# Altium footprint library WE-IBTI.PcbLib: 39 footprints (part 2 of 3)
Each footprint in its own frame and in the unit in brackets; x right, y up, seen from the top. Pads: shape width x height; smd on the part's side, far side on the other; paste and mask are expansions set on the pad; w line width, h text height; cw(c..) or ccw(c..) is an arc to the next point about the centre after c.
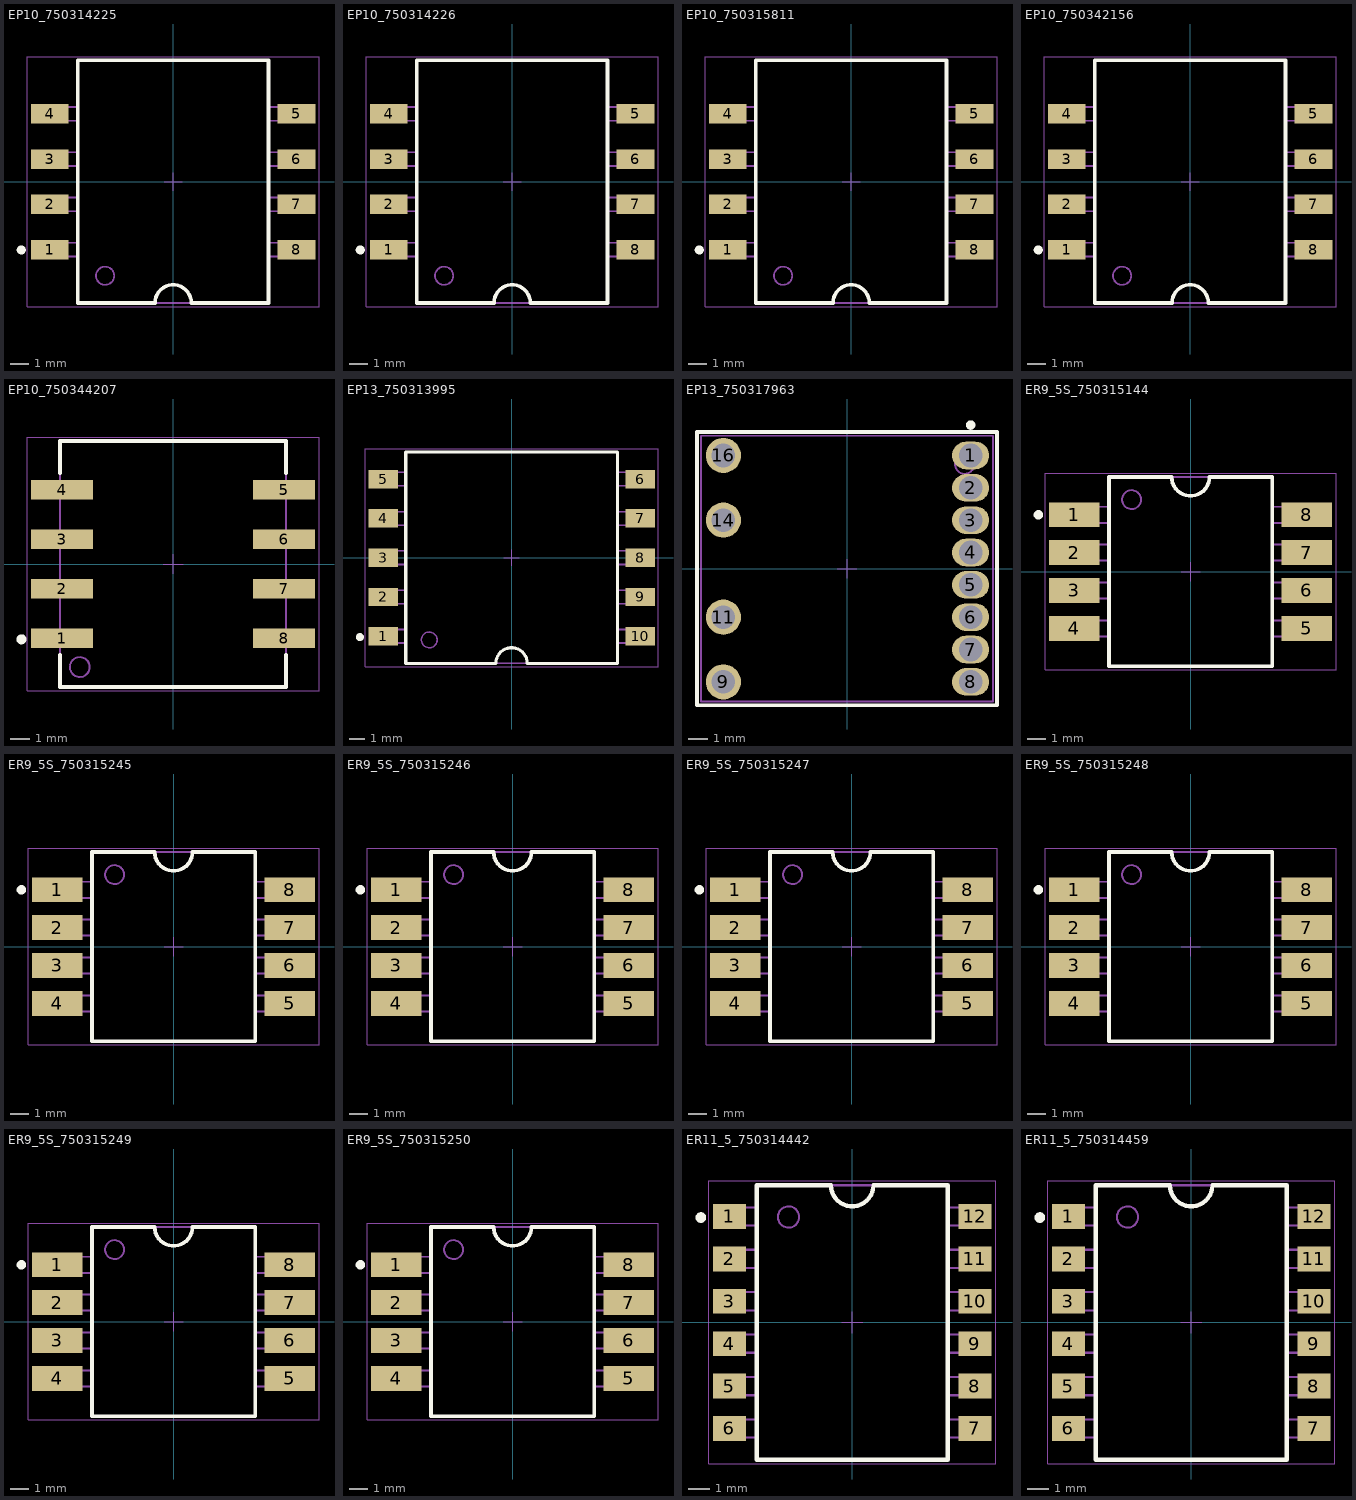
[diagram p1: the footprints below, top view; thin cyan lines are the x and y axes]

## EP10_750314225 [mm] "Isolated Buck Transformer, EP10, SMT"
height 11.43
pads (8):
  rect 2.08x1.07 smd: 1(-6.78,-3.735) 2(-6.78,-1.245) 3(-6.78,1.245) 4(-6.78,3.735) 5(6.78,3.735) 6(6.78,1.245) 7(6.78,-1.245) 8(6.78,-3.735)
Top Overlay:
  circle w0.25: c-8.35,-3.75 r0.125
  lines w0.2: -5.24,-6.67 -1,-6.67 cw(c0,-6.67) 1,-6.67 5.24,-6.67 5.24,6.67 -5.24,6.67 -5.24,-6.67
Top Component Outline:
  circle w0.1: c-3.74,-5.17 r0.5
  lines w0.1: -5.24,-4.115 -7.62,-4.115 -7.62,-3.355 -5.24,-3.355 ; -5.24,-1.625 -7.62,-1.625 -7.62,-0.865 -5.24,-0.865 ; -5.24,0.865 -7.62,0.865 -7.62,1.625 -5.24,1.625 ; -5.24,3.355 -7.62,3.355 -7.62,4.115 -5.24,4.115 ; 5.24,-4.115 7.62,-4.115 7.62,-3.355 5.24,-3.355 ; 5.24,-1.625 7.62,-1.625 7.62,-0.865 5.24,-0.865 ; 5.24,0.865 7.62,0.865 7.62,1.625 5.24,1.625 ; 5.24,3.355 7.62,3.355 7.62,4.115 5.24,4.115 ; -5.24,-6.67 -5.24,6.67 5.24,6.67 5.24,-6.67 -5.24,-6.67
Top Courtyard:
  lines w0.05: -8.02,-6.87 8.02,-6.87 8.02,6.87 -8.02,6.87 -8.02,-6.87
Top Component Center:
  lines w0.05: -0.5,0 0.5,0 ; 0,-0.5 0,0.5
Top Designator:
  text ".Designator" at -7.498,-0.5 h1.5
3D body "070-6052 (rev1).STEP": height 10.8, standoff 0.02, extent -7.31,-6.065 7.31,6.065

## EP10_750314226 [mm] "Isolated Buck Transformer, EP10, SMT"
height 11.43
pads (8):
  rect 2.08x1.07 smd: 1(-6.78,-3.735) 2(-6.78,-1.245) 3(-6.78,1.245) 4(-6.78,3.735) 5(6.78,3.735) 6(6.78,1.245) 7(6.78,-1.245) 8(6.78,-3.735)
Top Overlay:
  circle w0.25: c-8.35,-3.75 r0.125
  lines w0.2: -5.24,-6.67 -1,-6.67 cw(c0,-6.67) 1,-6.67 5.24,-6.67 5.24,6.67 -5.24,6.67 -5.24,-6.67
Top Component Outline:
  circle w0.1: c-3.74,-5.17 r0.5
  lines w0.1: -5.24,-4.115 -7.62,-4.115 -7.62,-3.355 -5.24,-3.355 ; -5.24,-1.625 -7.62,-1.625 -7.62,-0.865 -5.24,-0.865 ; -5.24,0.865 -7.62,0.865 -7.62,1.625 -5.24,1.625 ; -5.24,3.355 -7.62,3.355 -7.62,4.115 -5.24,4.115 ; 5.24,-4.115 7.62,-4.115 7.62,-3.355 5.24,-3.355 ; 5.24,-1.625 7.62,-1.625 7.62,-0.865 5.24,-0.865 ; 5.24,0.865 7.62,0.865 7.62,1.625 5.24,1.625 ; 5.24,3.355 7.62,3.355 7.62,4.115 5.24,4.115 ; -5.24,-6.67 -5.24,6.67 5.24,6.67 5.24,-6.67 -5.24,-6.67
Top Courtyard:
  lines w0.05: -8.02,-6.87 8.02,-6.87 8.02,6.87 -8.02,6.87 -8.02,-6.87
Top Component Center:
  lines w0.05: -0.5,0 0.5,0 ; 0,-0.5 0,0.5
Top Designator:
  text ".Designator" at -7.498,-0.5 h1.5
3D body "070-6052 (rev1) (1).STEP": height 10.8, standoff 0.02, extent -7.31,-6.065 7.31,6.065

## EP10_750315811 [mm] "Isolated Buck Transformer, EP10, SMT"
height 11.43
pads (8):
  rect 2.08x1.07 smd: 1(-6.78,-3.735) 2(-6.78,-1.245) 3(-6.78,1.245) 4(-6.78,3.735) 5(6.78,3.735) 6(6.78,1.245) 7(6.78,-1.245) 8(6.78,-3.735)
Top Overlay:
  circle w0.25: c-8.35,-3.75 r0.125
  lines w0.2: -5.24,-6.67 -5.24,6.67 5.24,6.67 5.24,-6.67 1,-6.67 ccw(c0,-6.67) -1,-6.67 -5.24,-6.67
Top Component Outline:
  circle w0.1: c-3.74,-5.17 r0.5
  lines w0.1: -5.24,-4.115 -7.62,-4.115 -7.62,-3.355 -5.24,-3.355 ; -5.24,-1.625 -7.62,-1.625 -7.62,-0.865 -5.24,-0.865 ; -5.24,0.865 -7.62,0.865 -7.62,1.625 -5.24,1.625 ; -5.24,3.355 -7.62,3.355 -7.62,4.115 -5.24,4.115 ; 5.24,-4.115 7.62,-4.115 7.62,-3.355 5.24,-3.355 ; 5.24,-1.625 7.62,-1.625 7.62,-0.865 5.24,-0.865 ; 5.24,0.865 7.62,0.865 7.62,1.625 5.24,1.625 ; 5.24,3.355 7.62,3.355 7.62,4.115 5.24,4.115 ; -5.24,-6.67 5.24,-6.67 5.24,6.67 -5.24,6.67 -5.24,-6.67
Top Courtyard:
  lines w0.05: -8.02,-6.87 -8.02,6.87 8.02,6.87 8.02,-6.87 -8.02,-6.87
Top Component Center:
  lines w0.05: -0.5,0 0.5,0 ; 0,-0.5 0,0.5
Top Designator:
  text ".Designator" at -7.498,-0.5 h1.5
3D body "070-6052 (rev1) (2).STEP": height 10.8, standoff 0.02, extent -7.31,-6.065 7.31,6.065

## EP10_750342156 [mm] "Isolated Buck Transformer, EP10, SMT"
height 11.43
pads (8):
  rect 2.08x1.07 smd: 1(-6.78,-3.735) 2(-6.78,-1.245) 3(-6.78,1.245) 4(-6.78,3.735) 5(6.78,3.735) 6(6.78,1.245) 7(6.78,-1.245) 8(6.78,-3.735)
Top Overlay:
  circle w0.25: c-8.35,-3.75 r0.125
  lines w0.2: -5.24,-6.67 -1,-6.67 cw(c0,-6.67) 1,-6.67 5.24,-6.67 5.24,6.67 -5.24,6.67 -5.24,-6.67
Top Component Outline:
  circle w0.1: c-3.74,-5.17 r0.5
  lines w0.1: -5.24,-4.115 -7.62,-4.115 -7.62,-3.355 -5.24,-3.355 ; -5.24,-1.625 -7.62,-1.625 -7.62,-0.865 -5.24,-0.865 ; -5.24,0.865 -7.62,0.865 -7.62,1.625 -5.24,1.625 ; -5.24,3.355 -7.62,3.355 -7.62,4.115 -5.24,4.115 ; 5.24,-4.115 7.62,-4.115 7.62,-3.355 5.24,-3.355 ; 5.24,-1.625 7.62,-1.625 7.62,-0.865 5.24,-0.865 ; 5.24,0.865 7.62,0.865 7.62,1.625 5.24,1.625 ; 5.24,3.355 7.62,3.355 7.62,4.115 5.24,4.115 ; -5.24,-6.67 -5.24,6.67 5.24,6.67 5.24,-6.67 -5.24,-6.67
Top Courtyard:
  lines w0.05: -8.02,-6.87 8.02,-6.87 8.02,6.87 -8.02,6.87 -8.02,-6.87
Top Component Center:
  lines w0.05: -0.5,0 0.5,0 ; 0,-0.5 0,0.5
Top Designator:
  text ".Designator" at -7.498,-0.5 h1.5
3D body "070-6052 (rev1).STEP": height 10.8, standoff 0.02, extent -7.31,-6.065 7.31,6.065

## EP10_750344207 [mm] "Isolated Buck  Transformer, body 13.80 x 12.40 mm"
height 13.6
pads (8):
  rect 3.12x1 smd: 1(-5.6,-3.75) 2(-5.6,-1.25) 3(-5.6,1.25) 4(-5.6,3.75) 5(5.6,3.75) 6(5.6,1.25) 7(5.6,-1.25) 8(5.6,-3.75)
Top Overlay:
  circle w0.25: c-7.65,-3.8 r0.125
  lines w0.2: -5.707,-4.6 -5.707,-6.2 5.707,-6.2 5.707,-4.6 ; -5.707,4.6 -5.707,6.2 5.707,6.2 5.707,4.6
Top Component Outline:
  circle w0.1: c-4.707,-5.2 r0.5
  lines w0.1: -5.707,-4 -6.598,-4 -6.598,-3.5 -5.707,-3.5 ; -5.707,-1.5 -6.598,-1.5 -6.598,-1 -5.707,-1 ; -5.707,1 -6.598,1 -6.598,1.5 -5.707,1.5 ; -5.707,3.5 -6.598,3.5 -6.598,4 -5.707,4 ; 5.707,-4 6.598,-4 6.598,-3.5 5.707,-3.5 ; 5.707,-1.5 6.598,-1.5 6.598,-1 5.707,-1 ; 5.707,1 6.598,1 6.598,1.5 5.707,1.5 ; 5.707,3.5 6.598,3.5 6.598,4 5.707,4 ; -5.707,-6.2 5.707,-6.2 5.707,6.2 -5.707,6.2 -5.707,-6.2
Top Courtyard:
  lines w0.05: -7.36,-6.4 -7.36,6.4 7.36,6.4 7.36,-6.4 -7.36,-6.4
Top Component Center:
  lines w0.05: -0.5,0 0.5,0 ; 0,-0.5 0,0.5
Top Designator:
  text ".Designator" at -7.498,-0.5 h1.5
3D body "Download_STP_070-7052 (rev1).STEP": height 12.51, standoff 0, extent -6.598,-6.065 6.597,6.065

## EP13_750313995 [mm] "Isolated Buck Transformer, EP13, SMT"
height 12.7
pads (10):
  rect 1.88x1.17 smd: 1(-8.18,-5) 2(-8.18,-2.5) 3(-8.18,0) 4(-8.18,2.5) 5(-8.18,5) 6(8.18,5) 7(8.18,2.5) 8(8.18,0) 9(8.18,-2.5) 10(8.18,-5)
Top Overlay:
  circle w0.25: c-9.65,-5.05 r0.125
  lines w0.2: -6.74,-6.73 -1,-6.73 cw(c0,-6.73) 1,-6.73 6.74,-6.73 6.74,6.73 -6.74,6.73 -6.74,-6.73
Top Component Outline:
  circle w0.1: c-5.24,-5.23 r0.5
  lines w0.1: -6.74,-5.43 -8.875,-5.43 -8.875,-4.57 -6.74,-4.57 ; -6.74,-2.93 -8.875,-2.93 -8.875,-2.07 -6.74,-2.07 ; -6.74,-0.43 -8.875,-0.43 -8.875,0.43 -6.74,0.43 ; -6.74,2.07 -8.875,2.07 -8.875,2.93 -6.74,2.93 ; -6.74,4.57 -8.875,4.57 -8.875,5.43 -6.74,5.43 ; 6.74,-5.43 8.875,-5.43 8.875,-4.57 6.74,-4.57 ; 6.74,-2.93 8.875,-2.93 8.875,-2.07 6.74,-2.07 ; 6.74,-0.43 8.875,-0.43 8.875,0.43 6.74,0.43 ; 6.74,2.07 8.875,2.07 8.875,2.93 6.74,2.93 ; 6.74,4.57 8.875,4.57 8.875,5.43 6.74,5.43 ; -6.74,-6.73 6.74,-6.73 6.74,6.73 -6.74,6.73 -6.74,-6.73
Top Courtyard:
  lines w0.05: -9.32,-6.93 -9.32,6.93 9.32,6.93 9.32,-6.93 -9.32,-6.93
Top Component Center:
  lines w0.05: -0.5,0 0.5,0 ; 0,-0.5 0,0.5
Top Designator:
  text ".Designator" at -7.498,-0.5 h1.5
3D body "070-5465 (rev1) (1).STEP": height 11.98, standoff 0.02, extent -8.58,-6.55 8.58,6.55

## EP13_750317963 [mm] "Isolated Buck  Transformer, THT, body 15.37 x 13.97 mm"
height 12.7
pads (12):
  oval 1.95x1.45 hole 1.25: 1(6.5,5.95) 2(6.5,4.25) 3(6.5,2.55) 4(6.5,0.85) 5(6.5,-0.85) 6(6.5,-2.55) 7(6.5,-4.25) 8(6.5,-5.95)
  round 1.85 hole 1.25: 9(-6.5,-5.95) 11(-6.5,-2.55) 14(-6.5,2.55) 16(-6.5,5.95)
Top Overlay:
  circle w0.25: c6.5,7.55 r0.125
  lines w0.2: -7.885,-7.185 -7.885,7.185 7.885,7.185 7.885,-7.185 -7.885,-7.185
Top Component Outline:
  circle w0.1: c6.185,5.485 r0.5
  lines w0.1: -7.685,-6.985 7.685,-6.985 7.685,6.985 -7.685,6.985 -7.685,-6.985
Top Courtyard:
  lines w0.05: -7.885,-7.185 -7.885,7.185 7.885,7.185 7.885,-7.185 -7.885,-7.185
Top Component Center:
  lines w0.05: -0.5,0 0.5,0 ; 0,-0.5 0,0.5
Top Designator:
  text ".Designator" at -7.498,-0.5 h1.5
3D body "Download_STP_070-4862 (rev1) (1).STEP": height 12.72, standoff -2.78, extent -7.685,-6.86 7.685,7.11

## ER9_5S_750315144 [mm] "Isolated Buck Transformer, ER9.5S, SMT"
height 5
pads (8):
  rect 2.67x1.31 smd: 1(-6.15,3) 2(-6.15,1) 3(-6.15,-1) 4(-6.15,-3) 5(6.15,-3) 6(6.15,-1) 7(6.15,1) 8(6.15,3)
Top Overlay:
  circle w0.25: c-8.04,3 r0.125
  lines w0.2: -4.315,-5 4.315,-5 4.315,5 1,5 cw(c0,5) -1,5 -4.315,5 -4.315,-5
Top Component Outline:
  circle w0.1: c-3.115,3.8 r0.5
  lines w0.1: -4.315,-3.425 -7,-3.425 -7,-2.575 -4.315,-2.575 ; -4.315,-1.425 -7,-1.425 -7,-0.575 -4.315,-0.575 ; -4.315,0.575 -7,0.575 -7,1.425 -4.315,1.425 ; -4.315,2.575 -7,2.575 -7,3.425 -4.315,3.425 ; 4.315,-3.425 7,-3.425 7,-2.575 4.315,-2.575 ; 4.315,-1.425 7,-1.425 7,-0.575 4.315,-0.575 ; 4.315,0.575 7,0.575 7,1.425 4.315,1.425 ; 4.315,2.575 7,2.575 7,3.425 4.315,3.425 ; -4.315,-5 -4.315,5 4.315,5 4.315,-5 -4.315,-5
Top Courtyard:
  lines w0.05: -7.685,-5.2 -7.685,5.2 7.685,5.2 7.685,-5.2 -7.685,-5.2
Top Component Center:
  lines w0.05: -0.5,0 0.5,0 ; 0,-0.5 0,0.5
Top Designator:
  text ".Designator" at -7.498,-0.5 h1.5
3D body "STEP-070-6310.step": height 4.85, standoff 0.01, extent -6.58,-4.826 6.58,4.674

## ER9_5S_750315245 [mm] "Isolated Buck Transformer, ER9.5S, SMT"
height 5
pads (8):
  rect 2.67x1.31 smd: 1(-6.15,3) 2(-6.15,1) 3(-6.15,-1) 4(-6.15,-3) 5(6.15,-3) 6(6.15,-1) 7(6.15,1) 8(6.15,3)
Top Overlay:
  circle w0.25: c-8.04,3 r0.125
  lines w0.2: -4.315,-5 -4.315,5 -1,5 ccw(c0,5) 1,5 4.315,5 4.315,-5 -4.315,-5
Top Component Outline:
  circle w0.1: c-3.115,3.8 r0.5
  lines w0.1: -4.315,-3.425 -7,-3.425 -7,-2.575 -4.315,-2.575 ; -4.315,-1.425 -7,-1.425 -7,-0.575 -4.315,-0.575 ; -4.315,0.575 -7,0.575 -7,1.425 -4.315,1.425 ; -4.315,2.575 -7,2.575 -7,3.425 -4.315,3.425 ; 4.315,-3.425 7,-3.425 7,-2.575 4.315,-2.575 ; 4.315,-1.425 7,-1.425 7,-0.575 4.315,-0.575 ; 4.315,0.575 7,0.575 7,1.425 4.315,1.425 ; 4.315,2.575 7,2.575 7,3.425 4.315,3.425 ; -4.315,-5 4.315,-5 4.315,5 -4.315,5 -4.315,-5
Top Courtyard:
  lines w0.05: -7.685,-5.2 7.685,-5.2 7.685,5.2 -7.685,5.2 -7.685,-5.2
Top Component Center:
  lines w0.05: -0.5,0 0.5,0 ; 0,-0.5 0,0.5
Top Designator:
  text ".Designator" at -7.498,-0.5 h1.5
3D body "STEP-070-6310.step": height 4.85, standoff 0.01, extent -6.58,-4.826 6.58,4.674

## ER9_5S_750315246 [mm] "Isolated Buck Transformer, ER9.5S, SMT"
height 5
pads (8):
  rect 2.67x1.31 smd: 1(-6.15,3) 2(-6.15,1) 3(-6.15,-1) 4(-6.15,-3) 5(6.15,-3) 6(6.15,-1) 7(6.15,1) 8(6.15,3)
Top Overlay:
  circle w0.25: c-8.04,3 r0.125
  lines w0.2: -4.315,-5 4.315,-5 4.315,5 1,5 cw(c0,5) -1,5 -4.315,5 -4.315,-5
Top Component Outline:
  circle w0.1: c-3.115,3.8 r0.5
  lines w0.1: -4.315,-3.425 -7,-3.425 -7,-2.575 -4.315,-2.575 ; -4.315,-1.425 -7,-1.425 -7,-0.575 -4.315,-0.575 ; -4.315,0.575 -7,0.575 -7,1.425 -4.315,1.425 ; -4.315,2.575 -7,2.575 -7,3.425 -4.315,3.425 ; 4.315,-3.425 7,-3.425 7,-2.575 4.315,-2.575 ; 4.315,-1.425 7,-1.425 7,-0.575 4.315,-0.575 ; 4.315,0.575 7,0.575 7,1.425 4.315,1.425 ; 4.315,2.575 7,2.575 7,3.425 4.315,3.425 ; -4.315,-5 -4.315,5 4.315,5 4.315,-5 -4.315,-5
Top Courtyard:
  lines w0.05: -7.685,-5.2 -7.685,5.2 7.685,5.2 7.685,-5.2 -7.685,-5.2
Top Component Center:
  lines w0.05: -0.5,0 0.5,0 ; 0,-0.5 0,0.5
Top Designator:
  text ".Designator" at -7.498,-0.5 h1.5
3D body "STEP-070-6310.step": height 4.85, standoff 0.01, extent -6.58,-4.826 6.58,4.674

## ER9_5S_750315247 [mm] "Isolated Buck Transformer, ER9.5S, SMT"
height 5
pads (8):
  rect 2.67x1.31 smd: 1(-6.15,3) 2(-6.15,1) 3(-6.15,-1) 4(-6.15,-3) 5(6.15,-3) 6(6.15,-1) 7(6.15,1) 8(6.15,3)
Top Overlay:
  circle w0.25: c-8.04,3 r0.125
  lines w0.2: -4.315,-5 -4.315,5 -1,5 ccw(c0,5) 1,5 4.315,5 4.315,-5 -4.315,-5
Top Component Outline:
  circle w0.1: c-3.115,3.8 r0.5
  lines w0.1: -4.315,-3.425 -7,-3.425 -7,-2.575 -4.315,-2.575 ; -4.315,-1.425 -7,-1.425 -7,-0.575 -4.315,-0.575 ; -4.315,0.575 -7,0.575 -7,1.425 -4.315,1.425 ; -4.315,2.575 -7,2.575 -7,3.425 -4.315,3.425 ; 4.315,-3.425 7,-3.425 7,-2.575 4.315,-2.575 ; 4.315,-1.425 7,-1.425 7,-0.575 4.315,-0.575 ; 4.315,0.575 7,0.575 7,1.425 4.315,1.425 ; 4.315,2.575 7,2.575 7,3.425 4.315,3.425 ; -4.315,-5 4.315,-5 4.315,5 -4.315,5 -4.315,-5
Top Courtyard:
  lines w0.05: -7.685,-5.2 7.685,-5.2 7.685,5.2 -7.685,5.2 -7.685,-5.2
Top Component Center:
  lines w0.05: -0.5,0 0.5,0 ; 0,-0.5 0,0.5
Top Designator:
  text ".Designator" at -7.498,-0.5 h1.5
3D body "STEP-070-6310.step": height 4.85, standoff 0.01, extent -6.58,-4.826 6.58,4.674

## ER9_5S_750315248 [mm] "Isolated Buck Transformer, ER9.5S, SMT"
height 5
pads (8):
  rect 2.67x1.31 smd: 1(-6.15,3) 2(-6.15,1) 3(-6.15,-1) 4(-6.15,-3) 5(6.15,-3) 6(6.15,-1) 7(6.15,1) 8(6.15,3)
Top Overlay:
  circle w0.25: c-8.04,3 r0.125
  lines w0.2: -4.315,-5 -4.315,5 -1,5 ccw(c0,5) 1,5 4.315,5 4.315,-5 -4.315,-5
Top Component Outline:
  circle w0.1: c-3.115,3.8 r0.5
  lines w0.1: -4.315,-3.425 -7,-3.425 -7,-2.575 -4.315,-2.575 ; -4.315,-1.425 -7,-1.425 -7,-0.575 -4.315,-0.575 ; -4.315,0.575 -7,0.575 -7,1.425 -4.315,1.425 ; -4.315,2.575 -7,2.575 -7,3.425 -4.315,3.425 ; 4.315,-3.425 7,-3.425 7,-2.575 4.315,-2.575 ; 4.315,-1.425 7,-1.425 7,-0.575 4.315,-0.575 ; 4.315,0.575 7,0.575 7,1.425 4.315,1.425 ; 4.315,2.575 7,2.575 7,3.425 4.315,3.425 ; -4.315,-5 4.315,-5 4.315,5 -4.315,5 -4.315,-5
Top Courtyard:
  lines w0.05: -7.685,-5.2 7.685,-5.2 7.685,5.2 -7.685,5.2 -7.685,-5.2
Top Component Center:
  lines w0.05: -0.5,0 0.5,0 ; 0,-0.5 0,0.5
Top Designator:
  text ".Designator" at -7.498,-0.5 h1.5
3D body "STEP-070-6310.step": height 4.85, standoff 0.01, extent -6.58,-4.826 6.58,4.674

## ER9_5S_750315249 [mm] "Isolated Buck Transformer, ER9.5S, SMT"
height 5
pads (8):
  rect 2.67x1.31 smd: 1(-6.15,3) 2(-6.15,1) 3(-6.15,-1) 4(-6.15,-3) 5(6.15,-3) 6(6.15,-1) 7(6.15,1) 8(6.15,3)
Top Overlay:
  circle w0.25: c-8.04,3 r0.125
  lines w0.2: -4.315,-5 4.315,-5 4.315,5 1,5 cw(c0,5) -1,5 -4.315,5 -4.315,-5
Top Component Outline:
  circle w0.1: c-3.115,3.8 r0.5
  lines w0.1: -4.315,-3.425 -7,-3.425 -7,-2.575 -4.315,-2.575 ; -4.315,-1.425 -7,-1.425 -7,-0.575 -4.315,-0.575 ; -4.315,0.575 -7,0.575 -7,1.425 -4.315,1.425 ; -4.315,2.575 -7,2.575 -7,3.425 -4.315,3.425 ; 4.315,-3.425 7,-3.425 7,-2.575 4.315,-2.575 ; 4.315,-1.425 7,-1.425 7,-0.575 4.315,-0.575 ; 4.315,0.575 7,0.575 7,1.425 4.315,1.425 ; 4.315,2.575 7,2.575 7,3.425 4.315,3.425 ; -4.315,-5 -4.315,5 4.315,5 4.315,-5 -4.315,-5
Top Courtyard:
  lines w0.05: -7.685,-5.2 -7.685,5.2 7.685,5.2 7.685,-5.2 -7.685,-5.2
Top Component Center:
  lines w0.05: -0.5,0 0.5,0 ; 0,-0.5 0,0.5
Top Designator:
  text ".Designator" at -7.498,-0.5 h1.5
3D body "STEP-070-6310.step": height 4.85, standoff 0.01, extent -6.58,-4.826 6.58,4.674

## ER9_5S_750315250 [mm] "Isolated Buck Transformer, ER9.5S, SMT"
height 5
pads (8):
  rect 2.67x1.31 smd: 1(-6.15,3) 2(-6.15,1) 3(-6.15,-1) 4(-6.15,-3) 5(6.15,-3) 6(6.15,-1) 7(6.15,1) 8(6.15,3)
Top Overlay:
  circle w0.25: c-8.04,3 r0.125
  lines w0.2: -4.315,-5 -4.315,5 -1,5 ccw(c0,5) 1,5 4.315,5 4.315,-5 -4.315,-5
Top Component Outline:
  circle w0.1: c-3.115,3.8 r0.5
  lines w0.1: -4.315,-3.425 -7,-3.425 -7,-2.575 -4.315,-2.575 ; -4.315,-1.425 -7,-1.425 -7,-0.575 -4.315,-0.575 ; -4.315,0.575 -7,0.575 -7,1.425 -4.315,1.425 ; -4.315,2.575 -7,2.575 -7,3.425 -4.315,3.425 ; 4.315,-3.425 7,-3.425 7,-2.575 4.315,-2.575 ; 4.315,-1.425 7,-1.425 7,-0.575 4.315,-0.575 ; 4.315,0.575 7,0.575 7,1.425 4.315,1.425 ; 4.315,2.575 7,2.575 7,3.425 4.315,3.425 ; -4.315,-5 4.315,-5 4.315,5 -4.315,5 -4.315,-5
Top Courtyard:
  lines w0.05: -7.685,-5.2 7.685,-5.2 7.685,5.2 -7.685,5.2 -7.685,-5.2
Top Component Center:
  lines w0.05: -0.5,0 0.5,0 ; 0,-0.5 0,0.5
Top Designator:
  text ".Designator" at -7.498,-0.5 h1.5
3D body "STEP-070-6310.step": height 4.85, standoff 0.01, extent -6.58,-4.826 6.58,4.674

## ER11_5_750314442 [mm] "Isolated Buck Transformer, ER11.5, SMT"
height 5.98
pads (12):
  rect 1.57x1.17 smd: 1(-5.79,5) 2(-5.79,3) 3(-5.79,1) 4(-5.79,-1) 5(-5.79,-3) 6(-5.79,-5) 7(5.79,-5) 8(5.79,-3) 9(5.79,-1) 10(5.79,1) 11(5.79,3) 12(5.79,5)
Top Overlay:
  circle w0.25: c-7.14,4.95 r0.125
  lines w0.2: -4.505,-6.475 -4.505,6.475 -1,6.475 ccw(c0,6.475) 1,6.475 4.505,6.475 4.505,-6.475 -4.505,-6.475
Top Component Outline:
  circle w0.1: c-3.005,4.975 r0.5
  lines w0.1: -4.505,-5.43 -6.35,-5.43 -6.35,-4.57 -4.505,-4.57 ; -4.505,-3.43 -6.35,-3.43 -6.35,-2.57 -4.505,-2.57 ; -4.505,-1.43 -6.35,-1.43 -6.35,-0.57 -4.505,-0.57 ; -4.505,0.57 -6.35,0.57 -6.35,1.43 -4.505,1.43 ; -4.505,2.57 -6.35,2.57 -6.35,3.43 -4.505,3.43 ; -4.505,4.57 -6.35,4.57 -6.35,5.43 -4.505,5.43 ; 4.505,-5.43 6.35,-5.43 6.35,-4.57 4.505,-4.57 ; 4.505,-3.43 6.35,-3.43 6.35,-2.57 4.505,-2.57 ; 4.505,-1.43 6.35,-1.43 6.35,-0.57 4.505,-0.57 ; 4.505,0.57 6.35,0.57 6.35,1.43 4.505,1.43 ; 4.505,2.57 6.35,2.57 6.35,3.43 4.505,3.43 ; 4.505,4.57 6.35,4.57 6.35,5.43 4.505,5.43 ; -4.505,-6.475 4.505,-6.475 4.505,6.475 -4.505,6.475 -4.505,-6.475
Top Courtyard:
  lines w0.05: -6.775,-6.675 -6.775,6.675 6.775,6.675 6.775,-6.675 -6.775,-6.675
Top Component Center:
  lines w0.05: -0.5,0 0.5,0 ; 0,-0.5 0,0.5
Top Designator:
  text ".Designator" at -7.498,-0.5 h1.5
3D body "070-6058 (rev1).STEP": height 5.65, standoff 0, extent -6.315,-6.277 6.165,6.223

## ER11_5_750314459 [mm] "Isolated Buck Transformer, ER11.5, SMT"
height 5.98
pads (12):
  rect 1.57x1.17 smd: 1(-5.79,5) 2(-5.79,3) 3(-5.79,1) 4(-5.79,-1) 5(-5.79,-3) 6(-5.79,-5) 7(5.79,-5) 8(5.79,-3) 9(5.79,-1) 10(5.79,1) 11(5.79,3) 12(5.79,5)
Top Overlay:
  circle w0.25: c-7.14,4.95 r0.125
  lines w0.2: -4.505,-6.475 -4.505,6.475 -1,6.475 ccw(c0,6.475) 1,6.475 4.505,6.475 4.505,-6.475 -4.505,-6.475
Top Component Outline:
  circle w0.1: c-3.005,4.975 r0.5
  lines w0.1: -4.505,-5.43 -6.35,-5.43 -6.35,-4.57 -4.505,-4.57 ; -4.505,-3.43 -6.35,-3.43 -6.35,-2.57 -4.505,-2.57 ; -4.505,-1.43 -6.35,-1.43 -6.35,-0.57 -4.505,-0.57 ; -4.505,0.57 -6.35,0.57 -6.35,1.43 -4.505,1.43 ; -4.505,2.57 -6.35,2.57 -6.35,3.43 -4.505,3.43 ; -4.505,4.57 -6.35,4.57 -6.35,5.43 -4.505,5.43 ; 4.505,-5.43 6.35,-5.43 6.35,-4.57 4.505,-4.57 ; 4.505,-3.43 6.35,-3.43 6.35,-2.57 4.505,-2.57 ; 4.505,-1.43 6.35,-1.43 6.35,-0.57 4.505,-0.57 ; 4.505,0.57 6.35,0.57 6.35,1.43 4.505,1.43 ; 4.505,2.57 6.35,2.57 6.35,3.43 4.505,3.43 ; 4.505,4.57 6.35,4.57 6.35,5.43 4.505,5.43 ; -4.505,-6.475 4.505,-6.475 4.505,6.475 -4.505,6.475 -4.505,-6.475
Top Courtyard:
  lines w0.05: -6.775,-6.675 -6.775,6.675 6.775,6.675 6.775,-6.675 -6.775,-6.675
Top Component Center:
  lines w0.05: -0.5,0 0.5,0 ; 0,-0.5 0,0.5
Top Designator:
  text ".Designator" at -7.498,-0.5 h1.5
3D body "ER11.5_6058.STEP": height 5.65, standoff 0, extent -6.315,-6.277 6.165,6.223